# Altium schematic symbol library ODIN-W262.Schlib: 1 symbol
Pins are listed as number, name and electrical type; pins without a type are passive.

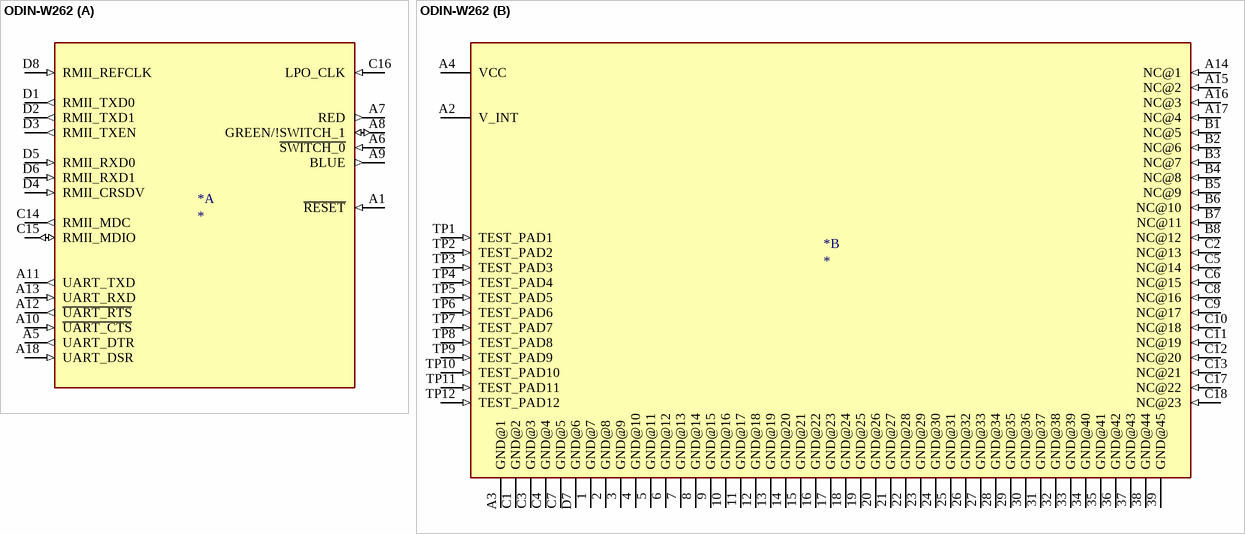
[diagram p0: symbol ODIN-W262]

## ODIN-W262
designator *
part A pins: A1 ~{RESET} (in), A5 UART_DTR (out), A6 ~{SWITCH_0} (in), A7 RED (out), A8 GREEN/!SWITCH_1 (io), A9 BLUE (out), A10 ~{UART_CTS} (in), A11 UART_TXD (out), A12 ~{UART_RTS} (out), A13 UART_RXD (in), A18 UART_DSR (in), C14 RMII_MDC (out), C15 RMII_MDIO (io), C16 LPO_CLK (in), D1 RMII_TXD0 (out), D2 RMII_TXD1 (out), D3 RMII_TXEN (out), D4 RMII_CRSDV (in), D5 RMII_RXD0 (in), D6 RMII_RXD1 (in), D8 RMII_REFCLK (in)
part B pins: 1 GND@7 (power), 2 GND@8 (power), 3 GND@9 (power), 4 GND@10 (power), 5 GND@11 (power), 6 GND@12 (power), 7 GND@13 (power), 8 GND@14 (power), 9 GND@15 (power), 10 GND@16 (power), 11 GND@17 (power), 12 GND@18 (power), 13 GND@19 (power), 14 GND@20 (power), 15 GND@21 (power), 16 GND@22 (power), 17 GND@23 (power), 18 GND@24 (power), 19 GND@25 (power), 20 GND@26 (power), 21 GND@27 (power), 22 GND@28 (power), 23 GND@29 (power), 24 GND@30 (power), 25 GND@31 (power), 26 GND@32 (power), 27 GND@33 (power), 28 GND@34 (power), 29 GND@35 (power), 30 GND@36 (power), 31 GND@37 (power), 32 GND@38 (power), 33 GND@39 (power), 34 GND@40 (power), 35 GND@41 (power), 36 GND@42 (power), 37 GND@43 (power), 38 GND@44 (power), 39 GND@45 (power), A2 V_INT (power), A3 GND@1 (power), A4 VCC (power), A14 NC@1 (in), A15 NC@2 (in), A16 NC@3 (in), A17 NC@4 (in), B1 NC@5 (in), B2 NC@6 (in), B3 NC@7 (in), B4 NC@8 (in), B5 NC@9 (in), B6 NC@10 (in), B7 NC@11 (in), B8 NC@12 (in), C1 GND@2 (power), C2 NC@13 (in), C3 GND@3 (power), C4 GND@4 (power), C5 NC@14 (in), C6 NC@15 (in), C7 GND@5 (power), C8 NC@16 (in), C9 NC@17 (in), C10 NC@18 (in), C11 NC@19 (in), C12 NC@20 (in), C13 NC@21 (in), C17 NC@22 (in), C18 NC@23 (in), D7 GND@6 (power), TP1 TEST_PAD1 (in), TP2 TEST_PAD2 (in), TP3 TEST_PAD3 (in), TP4 TEST_PAD4 (in), TP5 TEST_PAD5 (in), TP6 TEST_PAD6 (in), TP7 TEST_PAD7 (in), TP8 TEST_PAD8 (in), TP9 TEST_PAD9 (in), TP10 TEST_PAD10 (in), TP11 TEST_PAD11 (in), TP12 TEST_PAD12 (in)